# EAGLE library part ADS1247 (library _RoweTel)
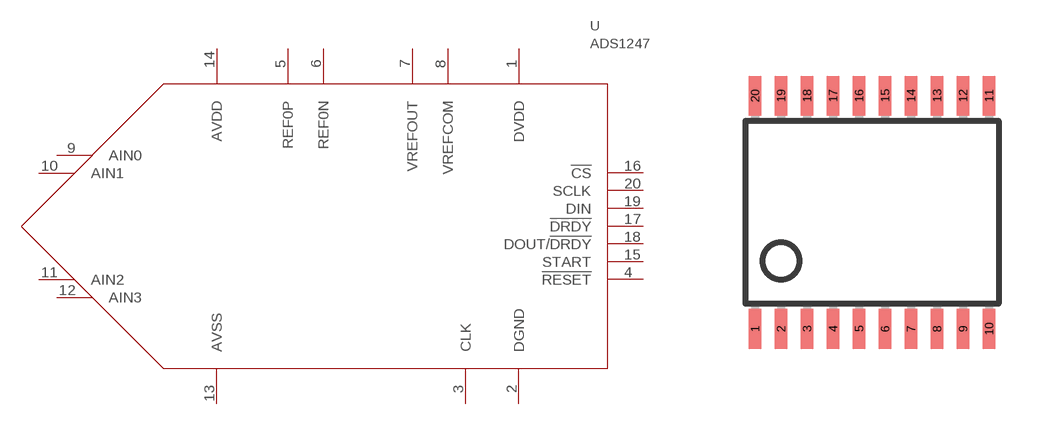
[diagram p5: symbol with the pads of TSSOP20; footprint TSSOP20]

Designator prefix U

## ADS1247  [TSSOP20]
1  DVDD  pwr
2  DGND  pwr
3  CLK
4  !RESET
5  REF0P  in
6  REF0N  in
7  VREFOUT  out
8  VREFCOM  out
9  AIN0  in
10  AIN1  in
11  AIN2  in
12  AIN3  in
13  AVSS  pwr
14  AVDD  pwr
15  START
16  !CS  in
17  !DRDY  out
18  DOUT/!DRDY  out
19  DIN  in
20  SCLK  in

## Footprint TSSOP20 (pad centres in mm)
smd 0.305 x 0.991: 1 -2.925,-2.918; 2 -2.275,-2.918; 3 -1.625,-2.918; 4 -0.975,-2.918; 5 -0.325,-2.918; 6 0.325,-2.918; 7 0.975,-2.918; 8 1.625,-2.918; 9 2.275,-2.918; 10 2.925,-2.918; 11 2.925,2.918; 12 2.275,2.918; 13 1.625,2.918; 14 0.975,2.918; 15 0.325,2.918; 16 -0.325,2.918; 17 -0.975,2.918; 18 -1.625,2.918; 19 -2.275,2.918; 20 -2.925,2.918